# EAGLE library part SM04B-SRSS-TB (library LIC_ALL-00)
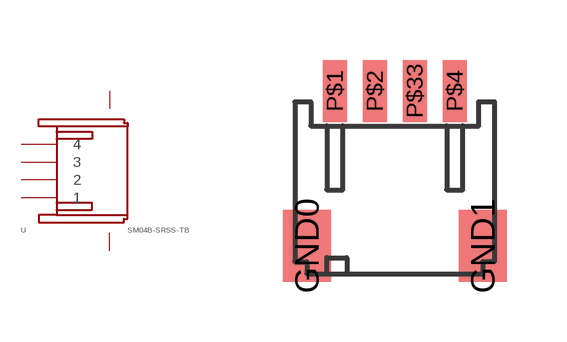
[diagram p7: symbol with the pads of SM04B-SRSS-TB; footprint SM04B-SRSS-TB]

Designator prefix -

## SM04B-SRSS-TB-SIDE-TYPE  [SM04B-SRSS-TB]
GND0  GND0  pwr
GND1  GND1  pwr
P$1  1
P$2  2
P$4  3
P$33  4

## Footprint SM04B-SRSS-TB (pad centres in mm)
smd 1.2 x 1.8: GND0 -2.2,0.9; GND1 2.2,0.9
smd 0.6 x 1.55: P$1 -1.5,4.775; P$2 -0.5,4.775; P$4 1.5,4.775; P$33 0.5,4.775